# EAGLE library part S29JL064J70TFI000_LCSC (library lcsc_parts)
Description: 64Mbit 2.7V~3.6V Parallel TSOP-48-18.4mm Memory RoHS Manufacturer: Infineon/CYPRESS MPN: S29JL064J70TFI000 LCSC Part: C393877 Category: Memory Datasheet: https://datasheet.lcsc.com/datasheet/pdf/9c637d977f6e6bbe5e34910634b446e4.pdf?productCode=C393877
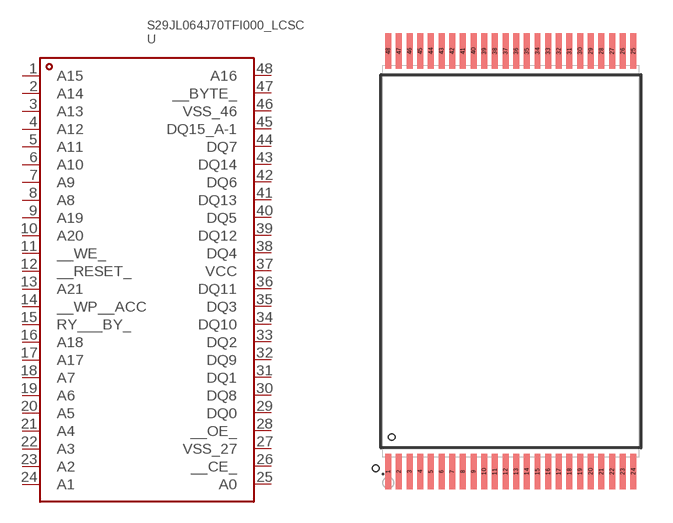
[diagram p6: symbol with the pads of TSOP-48_L12.0-W18.4-P0.50-LS20.0-BL; footprint TSOP-48_L12.0-W18.4-P0.50-LS20.0-BL]

Designator prefix U

## S29JL064J70TFI000_LCSC (CATEGORY: Memory; DATASHEET: https://datasheet.lcsc.com/datasheet/pdf/9c637d977f6e6bbe5e34910634b446e4.pdf?productCode=C393877; DATA_RETENTION_TDR_YEAR: 20 Years; DESCRIPTION: 64Mbit 2.7V~3.6V Parallel TSOP-48-18.4mm Memory RoHS; FEATURES: Power-on reset;Hardware write protection;Absolute write protection;Power lock protection; INTERFACE: Parallel; LCSC_PART: C393877; LCSC_STOCK: 10; MANUFACTURER: Infineon/CYPRESS; MEMORY_SIZE: 64Mbit; MPN: S29JL064J70TFI000; OPERATING_TEMPERATURE: -40℃~+85℃; PAGE_PROGRAMMING_TIME_TPP: 7us; PARTNO: S29JL064J70TFI000; PRICING_1000: $5.8071/unit @ 1000; PRICING_50: $6.4011/unit @ 50; PROGRAM_ERASE_CYCLES: 1,000,000 cycles; STANDBY_SUPPLY_CURRENT: 200nA; VOLTAGE_SUPPLY: 2.7V~3.6V; WRITE_CYCLE_TIME_TWC: 70ns)  [TSOP-48_L12.0-W18.4-P0.50-LS20.0-BL]
1  A15
2  A14
3  A13
4  A12
5  A11
6  A10
7  A9
8  A8
9  A19
10  A20
11  __WE_
12  __RESET_
13  A21
14  __WP__ACC
15  RY___BY_
16  A18
17  A17
18  A7
19  A6
20  A5
21  A4
22  A3
23  A2
24  A1
25  A0
26  __CE_
27  VSS_27
28  __OE_
29  DQ0
30  DQ8
31  DQ1
32  DQ9
33  DQ2
34  DQ10
35  DQ3
36  DQ11
37  VCC
38  DQ4
39  DQ12
40  DQ5
41  DQ13
42  DQ6
43  DQ14
44  DQ7
45  DQ15_A-1
46  VSS_46
47  __BYTE_
48  A16

## Footprint TSOP-48_L12.0-W18.4-P0.50-LS20.0-BL (pad centres in mm)
smd 0.28 x 1.65: 1 -5.75,-9.87; 2 -5.25,-9.87; 3 -4.75,-9.87; 4 -4.25,-9.87; 5 -3.75,-9.87; 6 -3.25,-9.87; 7 -2.75,-9.87; 8 -2.25,-9.87; 9 -1.75,-9.87; 10 -1.25,-9.87; 11 -0.75,-9.87; 12 -0.25,-9.87; 13 0.25,-9.87; 14 0.75,-9.87; 15 1.25,-9.87; 16 1.75,-9.87; 17 2.25,-9.87; 18 2.75,-9.87; 19 3.25,-9.87; 20 3.75,-9.87; 21 4.25,-9.87; 22 4.75,-9.87; 23 5.25,-9.87; 24 5.75,-9.87; 25 5.75,9.87; 26 5.25,9.87; 27 4.75,9.87; 28 4.25,9.87; 29 3.75,9.87; 30 3.25,9.87; 31 2.75,9.87; 32 2.25,9.87; 33 1.75,9.87; 34 1.25,9.87; 35 0.75,9.87; 36 0.25,9.87; 37 -0.25,9.87; 38 -0.75,9.87; 39 -1.25,9.87; 40 -1.75,9.87; 41 -2.25,9.87; 42 -2.75,9.87; 43 -3.25,9.87; 44 -3.75,9.87; 45 -4.25,9.87; 46 -4.75,9.87; 47 -5.25,9.87; 48 -5.75,9.87